# Altium schematic symbol library ArduinoMega2560.SchLib: 1 symbol
Pins are listed as number, name and electrical type; pins without a type are passive.

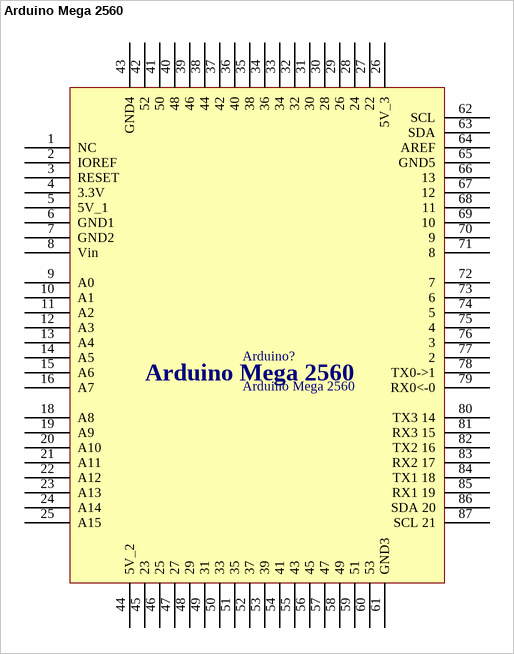
[diagram p0: symbol Arduino Mega 2560]

## Arduino Mega 2560
designator Arduino?
footprint ArduinoMega2560
pins: 1 NC, 2 IOREF, 3 RESET, 4 3.3V, 5 5V_1, 6 GND1, 7 GND2, 8 Vin, 9 A0, 10 A1, 11 A2, 12 A3, 13 A4, 14 A5, 15 A6, 16 A7, 18 A8, 19 A9, 20 A10, 21 A11, 22 A12, 23 A13, 24 A14, 25 A15, 26 5V_3, 27 22, 28 24, 29 26, 30 28, 31 30, 32, 33 34, 34 36, 35 38, 36 40, 37 42, 38 44, 39 46, 40 48, 41 50, 42 52, 43 GND4, 44 5V_2, 45 23, 46 25, 47 27, 48 29, 49 31, 50 33, 51 35, 52 37, 53 39, 54 41, 55 43, 56 45, 57 47, 58 49, 59 51, 60 53, 61 GND3, 62 SCL, 63 SDA, 64 AREF, 65 GND5, 66 13, 67 12, 68 11, 69 10, 70 9, 71 8, 72 7, 73 6, 74 5, 75 4, 76 3, 77 2, 78 TX0->1, 79 RX0<-0, 80 TX3 14, 81 RX3 15, 82 TX2 16, 83 RX2 17, 84 TX1 18, 85 RX1 19, 86 SDA 20, 87 SCL 21